# Altium schematic symbol library SCH_Connector.SchLib: 18 symbols
Pins are listed as number, name and electrical type; pins without a type are passive.

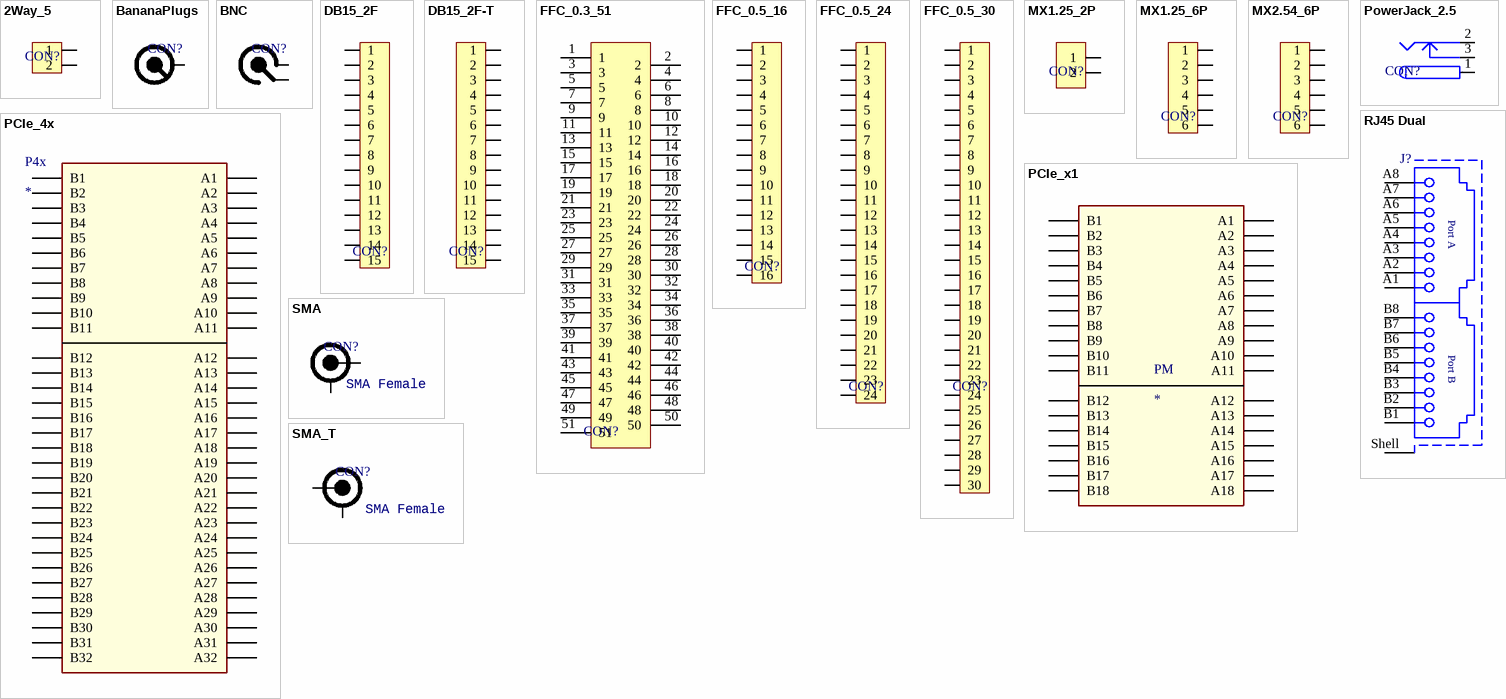
[diagram p0: symbols 2Way_5 to SMA_T]

## 2Way_5
designator CON?  (value not drawn)
DB
footprint 2Way_5
pins: 1, 2

## BananaPlugs
designator CON?  (value not drawn)
footprint BananaPlugs_Red
footprint BananaPlugs_Black
pins: 1

## BNC
designator CON?  (value not drawn)
footprint BNC_4P
pins: 1, 2

## DB15_2F
designator CON?  (value not drawn)
DB
footprint DB15_2F
pins: 1, 2, 3, 4, 5, 6, 7, 8, 9, 10, 11, 12, 13, 14, 15

## DB15_2F-T
designator CON?  (value not drawn)
DB
footprint DB15_2F
pins: 1, 2, 3, 4, 5, 6, 7, 8, 9, 10, 11, 12, 13, 14, 15

## FFC_0.3_51
designator CON?  (value not drawn)
FFC
footprint FFC_0.3_51
pins: 1, 2, 3, 4, 5, 6, 7, 8, 9, 10, 11, 12, 13, 14, 15, 16, 17, 18, 19, 20, 21, 22, 23, 24, 25, 26, 27, 28, 29, 30, 31, 32, 33, 34, 35, 36, 37, 38, 39, 40, 41, 42, 43, 44, 45, 46, 47, 48, 49, 50, 51

## FFC_0.5_16
designator CON?  (value not drawn)
FFC
footprint FFC_0.5_16
pins: 1, 2, 3, 4, 5, 6, 7, 8, 9, 10, 11, 12, 13, 14, 15, 16

## FFC_0.5_24
designator CON?  (value not drawn)
FFC
footprint FFC_0.5_24 (Connector; FH12 Series; 24 Position; 0.5mm Spaced Bottom Contact)
pins: 1, 2, 3, 4, 5, 6, 7, 8, 9, 10, 11, 12, 13, 14, 15, 16, 17, 18, 19, 20, 21, 22, 23, 24

## FFC_0.5_30
designator CON?  (value not drawn)
FFC
footprint FFC_0.5_30
pins: 1, 2, 3, 4, 5, 6, 7, 8, 9, 10, 11, 12, 13, 14, 15, 16, 17, 18, 19, 20, 21, 22, 23, 24, 25, 26, 27, 28, 29, 30

## MX1.25_2P
designator CON?  (value not drawn)
MX
footprint MX1.25_S90_2P
pins: 1, 2

## MX1.25_6P
designator CON?  (value not drawn)
MX
footprint MX1.25_S90_6P
footprint MX1.25s_S90_6P
pins: 0, 1, 2, 3, 4, 5, 6

## MX2.54_6P
designator CON?  (value not drawn)
MX
footprint MX2.54_S90_6P
pins: 1, 2, 3, 4, 5, 6

## PCIe_4x
designator P4x
footprint PCIe_4X
pins: A1 "P\R\S\N\T\1\", A2, A3, A4, A5 "JT_TCK", A6 "JT_TDI", A7 "JT_TDO", A8 "JT_TMS", A9, A10, A11 "P\E\R\S\T\", A12, A13 "CLK+", A14 "CLK-", A15, A16 "PERP0", A17 "PERN0", A18, A19, A20, A21, A22, A23, A24, A25, A26, A27, A28, A29, A30, A31, A32, B1, B2, B3, B4, B5 "SMCLK", B6 "SMDAT", B7, B8, B9 "J\T\_\T\R\S\T\", B10 "3.3VAUX", B11 "W\A\K\E\", B12 "RSVD", B13, B14 "PETP0", B15 "PETN0", B16, B17 "P\R\S\N\T\2\", B18, B19, B20, B21, B22, B23, B24, B25, B26, B27, B28, B29, B30, B31, B32

## PCIe_x1
designator PM
footprint PCIe_x1
pins: A1 "P\R\S\N\T\1\", A2, A3, A4, A5 "JT_TCK", A6 "JT_TDI", A7 "JT_TDO", A8 "JT_TMS", A9, A10, A11 "P\E\R\S\T\", A12, A13 "CLK+", A14 "CLK-", A15, A16 "PERP0", A17 "PERN0", A18, B1, B2, B3, B4, B5 "SMCLK", B6 "SMDAT", B7, B8, B9 "J\T\_\T\R\S\T\", B10 "3.3VAUX", B11 "W\A\K\E\", B12 "RSVD", B13, B14 "PETP0", B15 "PETN0", B16, B17 "P\R\S\N\T\2\", B18

## PowerJack_2.5
designator CON?  (value not drawn)
DC Power Jack
footprint KLD_0202
pins: 1 (power), 2 (power), 3 (power)

## RJ45 Dual
designator J?
WR-MJ Modular Jack THT Horizontal Shielded Dual Port 8P8C Tab Down; Manufacturer: Wurth Elektronik; Manufacturer Part Number: 615016137621; Rated Current: 1.5A; Contact Resistance: 20mOhm; Insulation Resistance: 500MOhm; Working Voltage: 120VAC; Withstanding Voltage: 1000VAC; ComponentLink1Description: Manufacturer; ComponentLink1URL: http://www.we-online.de; ComponentLink2Description: Datasheet; ComponentLink2URL: https://katalog.we-online.com/em/datasheet/615016137621.pdf; Packaging: Tray; Mounting Technology: THT; Operating Temperature: -40 to +85degC; Published Date: September 2020; xPxC: 8P8C; Type: Horizontal
footprint RJ45 dual (Modular Jack Horizontal Shielded Dual Port 8P8C Tab Down)
pins: A1, A2, A3, A4, A5, A6, A7, A8, B1, B2, B3, B4, B5, B6, B7, B8, Shell
text: Port A; Port B

## SMA
designator CON?  type: SMA Female  (hidden comment: SMA)
footprint SMA_KE_90
pins: 1, 2

## SMA_T
designator CON?  type: SMA Female  (hidden comment: SMA_T)
SMA
footprint SMA_KE_90
pins: 1, 2